# Altium schematic symbol library VelostatTest.SchLib: 3 symbols
Pins are listed as number, name and electrical type; pins without a type are passive.

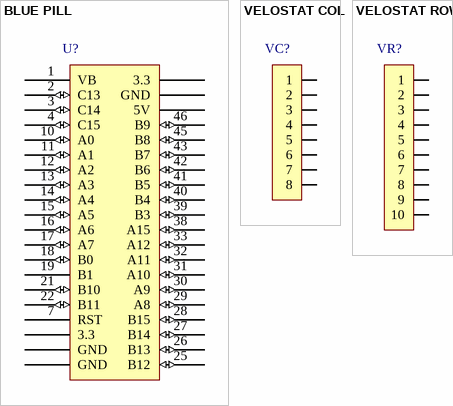
[diagram p0: symbols BLUE PILL to VELOSTAT ROW]

## BLUE PILL
designator U?  (value not drawn)
BASED ON STM32F103C8T6 (IC MCU 32BIT 64KB FLASH 48LQFP); Manufacturer: STMicroelectronics; RAM Size: 20KB; Frequency: 72MHz; Number of Bits: 32; Max Power Dissipation: 363mW; Interface: I2C,SPI,USB,CAN,USART; Number of I/Os: 37; Number of Timers/Counters: 3; Max Supply Voltage: 3.6V; Number of PWM Channels: 1; Number of ADC Channels: 10; Min Supply Voltage: 2V; Oscillator Type: Internal; Number of Programmable I/O: 48; Data Bus Width: 32b; Number of SPI Channels: 2; Watchdog Timer: Yes; Peripherals: POR,PWM,WDT,DMA,Temp Sensor,I2C; Core Architecture: ARM; Supplier 1: Digi-Key; Manufacturer Part Number: STM32F103C8T6; RoHS: Yes; Category: Microcontrollers; Pricing 1: 1=7.00000, 10=6.28800, 25=5.94440, 80=5.15175, 250=4.88756, 500=4.40320 (USD); Case/Package: LQFP; Number of Pins: 48; Weight: 0.006349oz; Min Operating Temperature: -40°C; Max Operating Temperature: 85°C; Density: 64KB; Packaging: Tray; Package Quantity: 1500; Memory Type: FLASH; Termination: SMD/SMT; Max Frequency: 72MHz; Number of I2C Channels: 2; Address Bus Width: 32b; Memory Size: 64KB; Series: STM32F103C8; Length: 7mm; Width: 7mm; Height: 1.4mm; Radiation Hardening: No; REACH SVHC: No SVHC; Lead Free: Lead Free; RoHS Compliant: Yes; ComponentLink1URL: https://datasheet.ciiva.com/15122/getdatasheetpartid-69880-15122076.pdf?src-supplier=Verical; ComponentLink1Description: https://datasheet.ciiva.com/15122/getdatasheetpartid-69880-15122076.pdf?src-supplier=Verical; ComponentLink2URL: https://datasheet.ciiva.com/26816/stm32f103c8t6-26816902.pdf?src-supplier=IIIC; ComponentLink2Description: https://datasheet.ciiva.com/26816/stm32f103c8t6-26816902.pdf?src-supplier=IIIC; ComponentLink3URL: https://datasheet.ciiva.com/8054/1730126-8054942.pdf?src-supplier=Element14; ComponentLink3Description: https://datasheet.ciiva.com/8054/1730126-8054942.pdf?src-supplier=Element14; ComponentLink4URL: https://datasheet.ciiva.com/14100/pustm-arm-microcont-stm32f103-en-14100508.pdf?src-supplier=Distrelec; ComponentLink4Description: https://datasheet.ciiva.com/14100/pustm-arm-microcont-stm32f103-en-14100508.pdf?src-supplier=Distrelec; ComponentLink5URL: https://datasheet.ciiva.com/16210/cd00161566-16210248.pdf?src-supplier=Future+Electronics; ComponentLink5Description: https://datasheet.ciiva.com/16210/cd00161566-16210248.pdf?src-supplier=Future+Electronics; ComponentLink6URL: https://datasheet.ciiva.com/48687/001075658-da-01-en-mcu-64kb-mem-stm32f103c8t6-lqfp-48-stm-48687589.pdf?src-supplier=Conrad; ComponentLink6Description: https://datasheet.ciiva.com/48687/001075658-da-01-en-mcu-64kb-mem-stm32f103c8t6-lqfp-48-stm-48687589.pdf?src-supplier=Conrad; Supplier Part Number 1: 497-6063-ND
footprint BLUE PILL
pins: 1 VB, 2 C13 (io), 3 C14 (io), 4 C15 (io), 7 RST, 8 GND, 9 3.3, 10 A0 (io), 11 A1 (io), 12 A2 (io), 13 A3 (io), 14 A4 (io), 15 A5 (io), 16 A6 (io), 17 A7 (io), 18 B0 (io), 19 B1, 21 B10 (io), 22 B11 (io), 23 GND, 25 B12 (io), 26 B13 (io), 27 B14 (io), 28 B15 (io), 29 A8 (io), 30 A9 (io), 31 A10 (io), 32 A11 (io), 33 A12 (io), 35 GND, 36 3.3, 38 A15 (io), 39 B3 (io), 40 B4 (io), 41 B5 (io), 42 B6 (io), 43 B7 (io), 45 B8 (io), 46 B9 (io), 49 5V

## VELOSTAT COL
designator VC?  (value not drawn)
8 columns to test a sensor with 8x8 dot matrix
footprint VELOSTAT COL
pins: 1, 2, 3, 4, 5, 6, 7, 8

## VELOSTAT ROW
designator VR?  (value not drawn)
10 rows to test a sensor with 8x8 dot matrix
footprint VELOSTAT ROW
pins: 1, 2, 3, 4, 5, 6, 7, 8, 9, 10